# Altium schematic symbol library SMAJ22CA.Schlib: 1 symbol
Pins are listed as number, name and electrical type; pins without a type are passive.

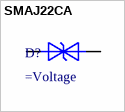
[diagram p0: symbol SMAJ22CA]

## SMAJ22CA
designator D?
Diode, TVS, Bi, 22V
pins: 1, 2